# EAGLE library part WF3.0-2X3 (library Insight Solutions-Connectors)
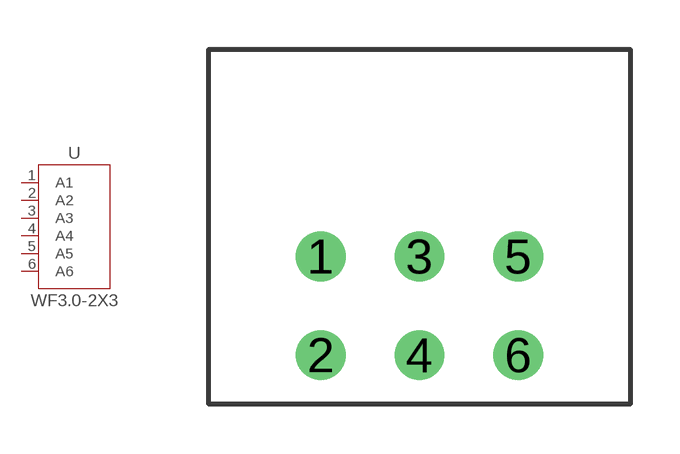
[diagram p4: symbol with the pads of WF3.0-2X3; footprint WF3.0-2X3]

Designator prefix U

## WF3.0-2X3  [WF3.0-2X3]
1  A1  pas
2  A2  pas
3  A3  pas
4  A4  pas
5  A5  pas
6  A6  pas

## Footprint WF3.0-2X3 (pad centres in mm)
drill 1: 1 -3,1.5; 2 -3,-1.5; 3 0,1.5; 4 0,-1.5; 5 3,1.5; 6 3,-1.5